# Altium footprint library CAP_CER_0603_KEMET.PcbLib: 1 footprints
Each footprint in its own frame and in the unit in brackets; x right, y up, seen from the top. Pads: shape width x height; smd on the part's side, far side on the other; paste and mask are expansions set on the pad; w line width, h text height; cw(c..) or ccw(c..) is an arc to the next point about the centre after c.
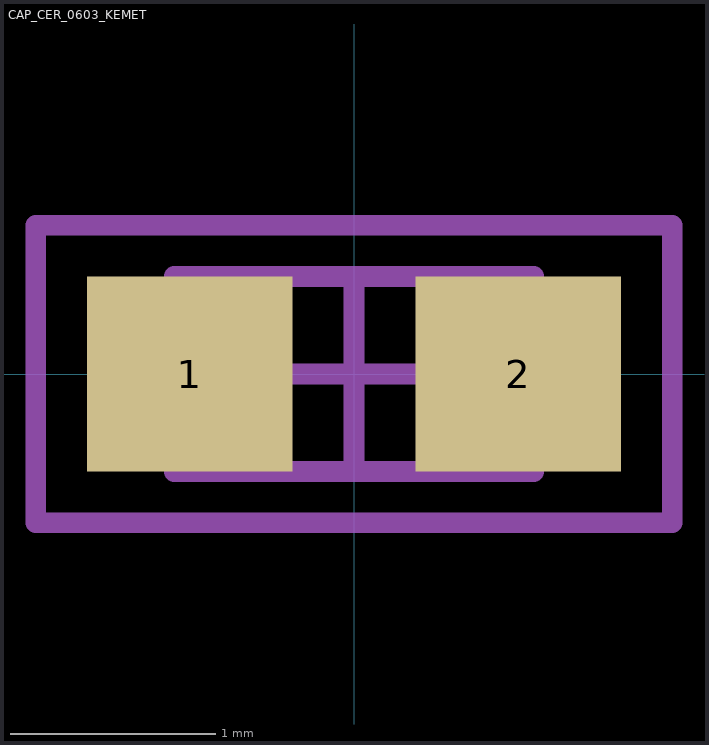
[diagram p0: the footprint, top view; thin cyan lines are the x and y axes]

## CAP_CER_0603_KEMET [mm]
height 0.6
pads (2):
  rect 1x0.95 smd: 1(-0.8,0) 2(0.8,0)
Mechanical 13:
  lines w0.1: -0.875,-0.475 -0.875,0.475 0.875,0.475 0.875,-0.475 -0.875,-0.475
Mechanical 15:
  lines w0.1: -0.475,0 0.475,0 ; 0,-0.475 0,0.475 ; -1.55,-0.725 -1.55,0.725 1.55,0.725 1.55,-0.725 -1.55,-0.725
3D body "cap_cer_0603_kemet.stp": height 0.3, standoff 0, extent -0.805,-0.395 0.795,0.405